# EAGLE library part HJR-4102-L (library relay)
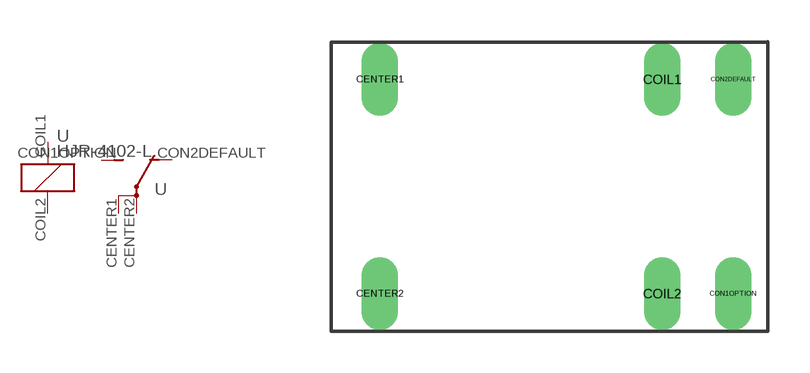
[diagram p143: symbol with the pads of HJR4102; footprint HJR4102]

Designator prefix -; gates G$1=K G$2=U1

## HJR-4102-L  [HJR4102]
CENTER1  G$2:P  pas
CENTER2  G$2:P  pas
COIL1  G$1:1  pas
COIL2  G$1:2  pas
CON1OPTION  G$2:S  pas
CON2DEFAULT  G$2:O  pas

## Footprint HJR4102 (pad centres in mm)
drill 0.8 long: CENTER1 -5.933,3.877; CENTER2 -5.933,-3.839; COIL1 4.227,3.877; COIL2 4.227,-3.839; CON1OPTION 6.767,-3.839; CON2DEFAULT 6.767,3.877